# EAGLE library part PIC16F88 (library KIKS)
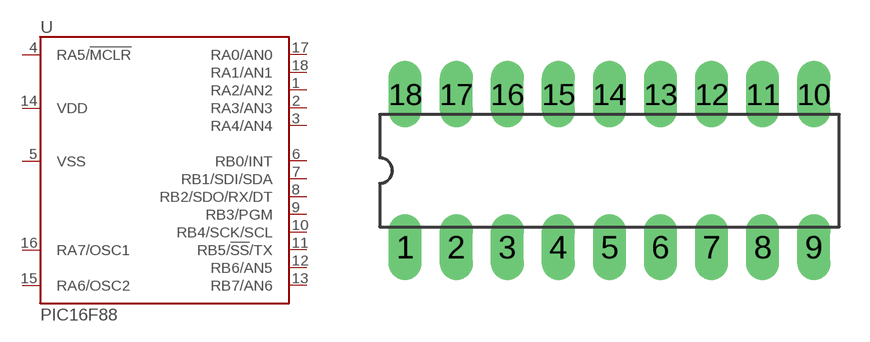
[diagram p3: symbol with the pads of DIP18; footprint DIP18]

Designator prefix U

## PIC16F88  [DIP18]
1  RA2/AN2
2  RA3/AN3
3  RA4/AN4
4  RA5/!MCLR
5  VSS
6  RB0/INT
7  RB1/SDI/SDA
8  RB2/SDO/RX/DT
9  RB3/PGM
10  RB4/SCK/SCL
11  RB5/!SS!/TX
12  RB6/AN5
13  RB7/AN6
14  VDD
15  RA6/OSC2
16  RA7/OSC1
17  RA0/AN0
18  RA1/AN1

## Footprint DIP18 (pad centres in mm)
drill 1.1 long: 1 -10.16,-3.81; 2 -7.62,-3.81; 3 -5.08,-3.81; 4 -2.54,-3.81; 5 0,-3.81; 6 2.54,-3.81; 7 5.08,-3.81; 8 7.62,-3.81; 9 10.16,-3.81; 10 10.16,3.81; 11 7.62,3.81; 12 5.08,3.81; 13 2.54,3.81; 14 0,3.81; 15 -2.54,3.81; 16 -5.08,3.81; 17 -7.62,3.81; 18 -10.16,3.81